# EAGLE library part ATTINY85 (library SophiEaglev9)
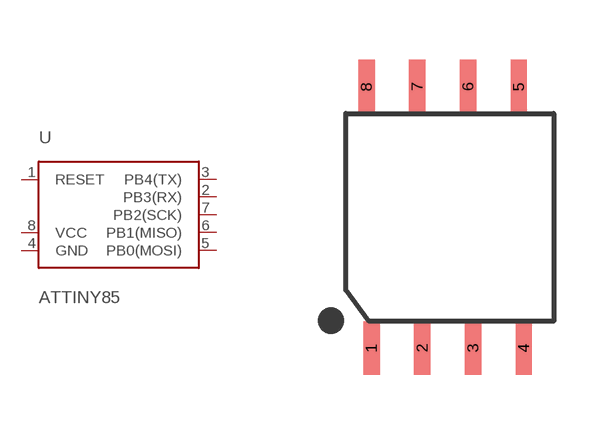
[diagram p12: symbol with the pads of SOI8W; footprint SOI8W]

Designator prefix -

## ATTINY85  [SOI8W]
1  RESET
2  PB3(RX)
3  PB4(TX)
4  GND
5  PB0(MOSI)
6  PB1(MISO)
7  PB2(SCK)
8  VCC

## Footprint SOI8W (pad centres in mm)
smd 0.41 x 1.34: 1 0.645,-0.67; 2 1.915,-0.67; 3 3.185,-0.67; 4 4.455,-0.67; 5 4.33,5.87; 6 3.06,5.87; 7 1.79,5.87; 8 0.52,5.87